# Altium footprint library RESISTORS.PcbLib: 11 footprints
Each footprint in its own frame and in the unit in brackets; x right, y up, seen from the top. Pads: shape width x height; smd on the part's side, far side on the other; paste and mask are expansions set on the pad; w line width, h text height; cw(c..) or ccw(c..) is an arc to the next point about the centre after c.
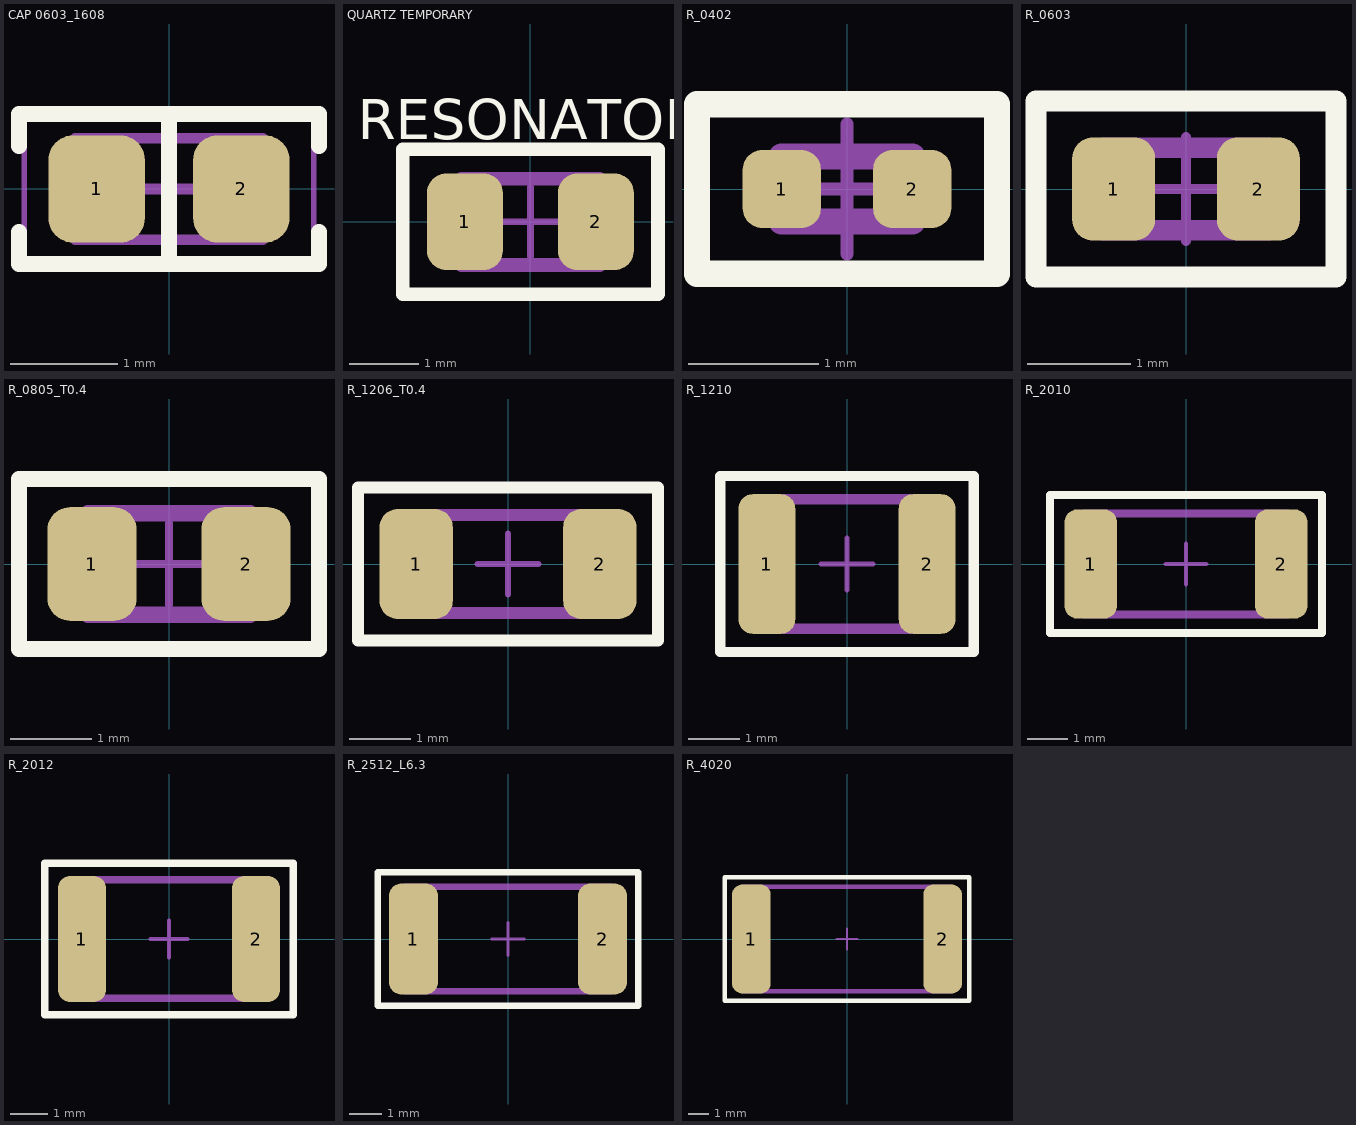
[diagram p0: the footprints below, top view; thin cyan lines are the x and y axes]

## CAP 0603_1608 [mm] "Chip Capacitor, 2-Leads, Body 1.60x0.80mm, IPC Medium Density"
height 0.89
pads (2):
  rrect50% 0.9x1 smd: 1(-0.675,0) 2(0.675,0)
Top Overlay:
  lines w0.15: -1.4,-0.4 -1.4,-0.7 1.4,-0.7 1.4,-0.4 ; -1.4,0.4 -1.4,0.7 1.4,0.7 1.4,0.4 ; 0,-0.7 0,0.7
Top Assembly:
  lines w0.1: -0.875,-0.475 0.875,-0.475 0.875,0.475 -0.875,0.475 -0.875,-0.475
Top Courtyard:
  lines w0.05: -1.35,-0.75 1.35,-0.75 1.35,0.75 -1.35,0.75 -1.35,-0.75
  lines w0.1: -0.475,0 0.475,0 ; 0,-0.475 0,0.475
3D body "0603 cap.STEP": height 0.82, standoff 0, extent -0.8,-0.412 0.8,0.412

## QUARTZ TEMPORARY [mm]
height 0.45
pads (2):
  rrect50% 1.1x1.4 smd mask+0.05: 1(-0.95,0) 2(0.95,0)
Top Overlay:
  lines w0.2: -1.85,-1.05 1.85,-1.05 1.85,1.05 -1.85,1.05 -1.85,-1.05
  text "RESONATOR" at -2.5,1 h1
Dimensions:
  lines w0.2: -1,-0.625 1,-0.625 1,0.625 -1,0.625 -1,-0.625
Top Courtyard:
  lines w0.1: -0.5,0 0.5,0 ; 0,-0.5 0,0.5
3D body: height 1, standoff 0, extent -1,-0.5 1,0.5

## R_0402 [mm] "Чип-резисторы постоянные непроволочные общего применения Р1-8В"
height 0.35
pads (2):
  rrect50% 0.6x0.6 smd mask+0.05: 1(-0.5,0) 2(0.5,0)
Top Overlay:
  lines w0.2: -1.15,-0.65 1.15,-0.65 1.15,0.65 -1.15,0.65 -1.15,-0.65
Dimensions:
  lines w0.2: -0.5,-0.25 -0.5,0.25 0.5,0.25 0.5,-0.25 -0.5,-0.25
Top Courtyard:
  lines w0.1: -0.5,0 0.5,0 ; 0,-0.5 0,0.5
3D body "P1-8В-0402.stp": height 0.38, standoff 0.03, extent -0.5,-0.25 0.5,0.25

## R_0603 [mm] "Чип-резисторы постоянные непроволочные общего применения Р1-8В"
height 0.4
pads (2):
  rrect50% 0.8x1 smd mask+0.05: 1(-0.7,0) 2(0.7,0)
Top Overlay:
  lines w0.2: -1.45,-0.85 1.45,-0.85 1.45,0.85 -1.45,0.85 -1.45,-0.85
Dimensions:
  lines w0.2: -0.8,-0.4 0.8,-0.4 0.8,0.4 -0.8,0.4 -0.8,-0.4
Top Courtyard:
  lines w0.1: -0.5,0 0.5,0 ; 0,-0.5 0,0.5
3D body "P1-8B-0603.stp": height 0.4, standoff 0, extent -0.8,-0.4 0.8,0.4

## R_0805_T0.4 [mm] "Чип-резисторы постоянные непроволочные общего применения Р1-8В"
height 0.45
pads (2):
  rrect50% 1.1x1.4 smd mask+0.05: 1(-0.95,0) 2(0.95,0)
Top Overlay:
  lines w0.2: -1.85,-1.05 1.85,-1.05 1.85,1.05 -1.85,1.05 -1.85,-1.05
Dimensions:
  lines w0.2: -1,-0.625 1,-0.625 1,0.625 -1,0.625 -1,-0.625
Top Courtyard:
  lines w0.1: -0.5,0 0.5,0 ; 0,-0.5 0,0.5
3D body "P1-8B-0805.stp": height 0.45, standoff 0, extent -1,-0.625 1,0.625

## R_1206_T0.4 [mm] "Чип-резисторы постоянные непроволочные общего применения Р1-8В"
height 0.6
pads (2):
  rrect50% 1.2x1.8 smd mask+0.05: 1(-1.5,0) 2(1.5,0)
Top Overlay:
  lines w0.2: -2.45,-1.25 2.45,-1.25 2.45,1.25 -2.45,1.25 -2.45,-1.25
Dimensions:
  lines w0.2: -1.6,-0.8 1.6,-0.8 1.6,0.8 -1.6,0.8 -1.6,-0.8
  text ".Designator" at -2.5,1.75 h1.52
Top Courtyard:
  lines w0.1: -0.5,0 0.5,0 ; 0,-0.5 0,0.5
3D body "P1-8B-1206.stp": height 0.6, standoff 0, extent -1.6,-0.8 1.6,0.8

## R_1210 [mm] "Чип-резисторы постоянные непроволочные общего применения Р1-8В"
height 0.6
pads (2):
  rrect50% 1.1x2.7 smd mask+0.05: 1(-1.55,0) 2(1.55,0)
Top Overlay:
  lines w0.2: -2.45,-1.7 2.45,-1.7 2.45,1.7 -2.45,1.7 -2.45,-1.7
Dimensions:
  lines w0.2: -1.6,-1.25 1.6,-1.25 1.6,1.25 -1.6,1.25 -1.6,-1.25
  text ".Designator" at -2.5,2.25 h1.52
Top Courtyard:
  lines w0.1: -0.5,0 0.5,0 ; 0,-0.5 0,0.5
3D body "P1-8B-1210.stp": height 0.6, standoff 0, extent -1.6,-1.25 1.6,1.25

## R_2010 [mm] "Чип-резисторы постоянные непроволочные общего применения Р1-8В"
height 0.6
pads (2):
  rrect50% 1.3x2.7 smd mask+0.05: 1(-2.35,0) 2(2.35,0)
Top Overlay:
  lines w0.2: -3.35,-1.7 3.35,-1.7 3.35,1.7 -3.35,1.7 -3.35,-1.7
Dimensions:
  lines w0.2: -2.5,-1.25 2.5,-1.25 2.5,1.25 -2.5,1.25 -2.5,-1.25
  text ".Designator" at -3.25,2.25 h1.52
Top Courtyard:
  lines w0.1: -0.5,0 0.5,0 ; 0,-0.5 0,0.5
3D body "P1-8B-2010.stp": height 0.6, standoff 0, extent -2.5,-1.25 2.5,1.25

## R_2012 [mm] "Чип-резисторы постоянные непроволочные общего применения Р1-8В"
height 0.6
pads (2):
  rrect50% 1.3x3.4 smd mask+0.05: 1(-2.35,0) 2(2.35,0)
Top Overlay:
  lines w0.2: -3.35,-2.05 -3.35,2.05 3.35,2.05 3.35,-2.05 -3.35,-2.05
Dimensions:
  lines w0.2: -2.5,-1.6 -2.5,1.6 2.5,1.6 2.5,-1.6 -2.5,-1.6
  text ".Designator" at -2.75,2.75 h1.52
Top Courtyard:
  lines w0.1: -0.5,0 0.5,0 ; 0,-0.5 0,0.5
3D body "P1-8B-2012.stp": height 0.6, standoff 0, extent -2.5,-1.6 2.5,1.6

## R_2512_L6.3 [mm] "Чип-резисторы постоянные непроволочные общего применения Р1-8В"
height 0.6
pads (2):
  rrect50% 1.5x3.4 smd mask+0.05: 1(-2.9,0) 2(2.9,0)
Top Overlay:
  lines w0.2: -4,-2.05 4,-2.05 4,2.05 -4,2.05 -4,-2.05
Dimensions:
  lines w0.2: -3.15,-1.6 3.15,-1.6 3.15,1.6 -3.15,1.6 -3.15,-1.6
  text ".Designator" at -4,2.75 h1.52
Top Courtyard:
  lines w0.1: -0.5,0 0.5,0 ; 0,-0.5 0,0.5
3D body "P1-8B-2512.stp": height 0.6, standoff 0, extent -3.15,-1.6 3.15,1.6

## R_4020 [mm] "Чип-резисторы постоянные непроволочные общего применения Р1-8В"
height 0.6
pads (2):
  rrect50% 1.85x5.2 smd mask+0.05: 1(-4.575,0) 2(4.575,0)
Top Overlay:
  lines w0.2: -5.85,-2.95 -5.85,2.95 5.85,2.95 5.85,-2.95 -5.85,-2.95
Dimensions:
  lines w0.2: -5,-2.5 -5,2.5 5,2.5 5,-2.5 -5,-2.5
  text ".Designator" at -5.75,3.75 h1.52
Top Courtyard:
  lines w0.1: -0.5,0 0.5,0 ; 0,-0.5 0,0.5
3D body "P1-8B-4020.stp": height 0.6, standoff 0, extent -5,-2.5 5,2.5